# Altium footprint library Panasonic.PcbLib: 90 footprints (part 1 of 6)
Each footprint in its own frame and in the unit in brackets; x right, y up, seen from the top. Pads: shape width x height; smd on the part's side, far side on the other; paste and mask are expansions set on the pad; w line width, h text height; cw(c..) or ccw(c..) is an arc to the next point about the centre after c.
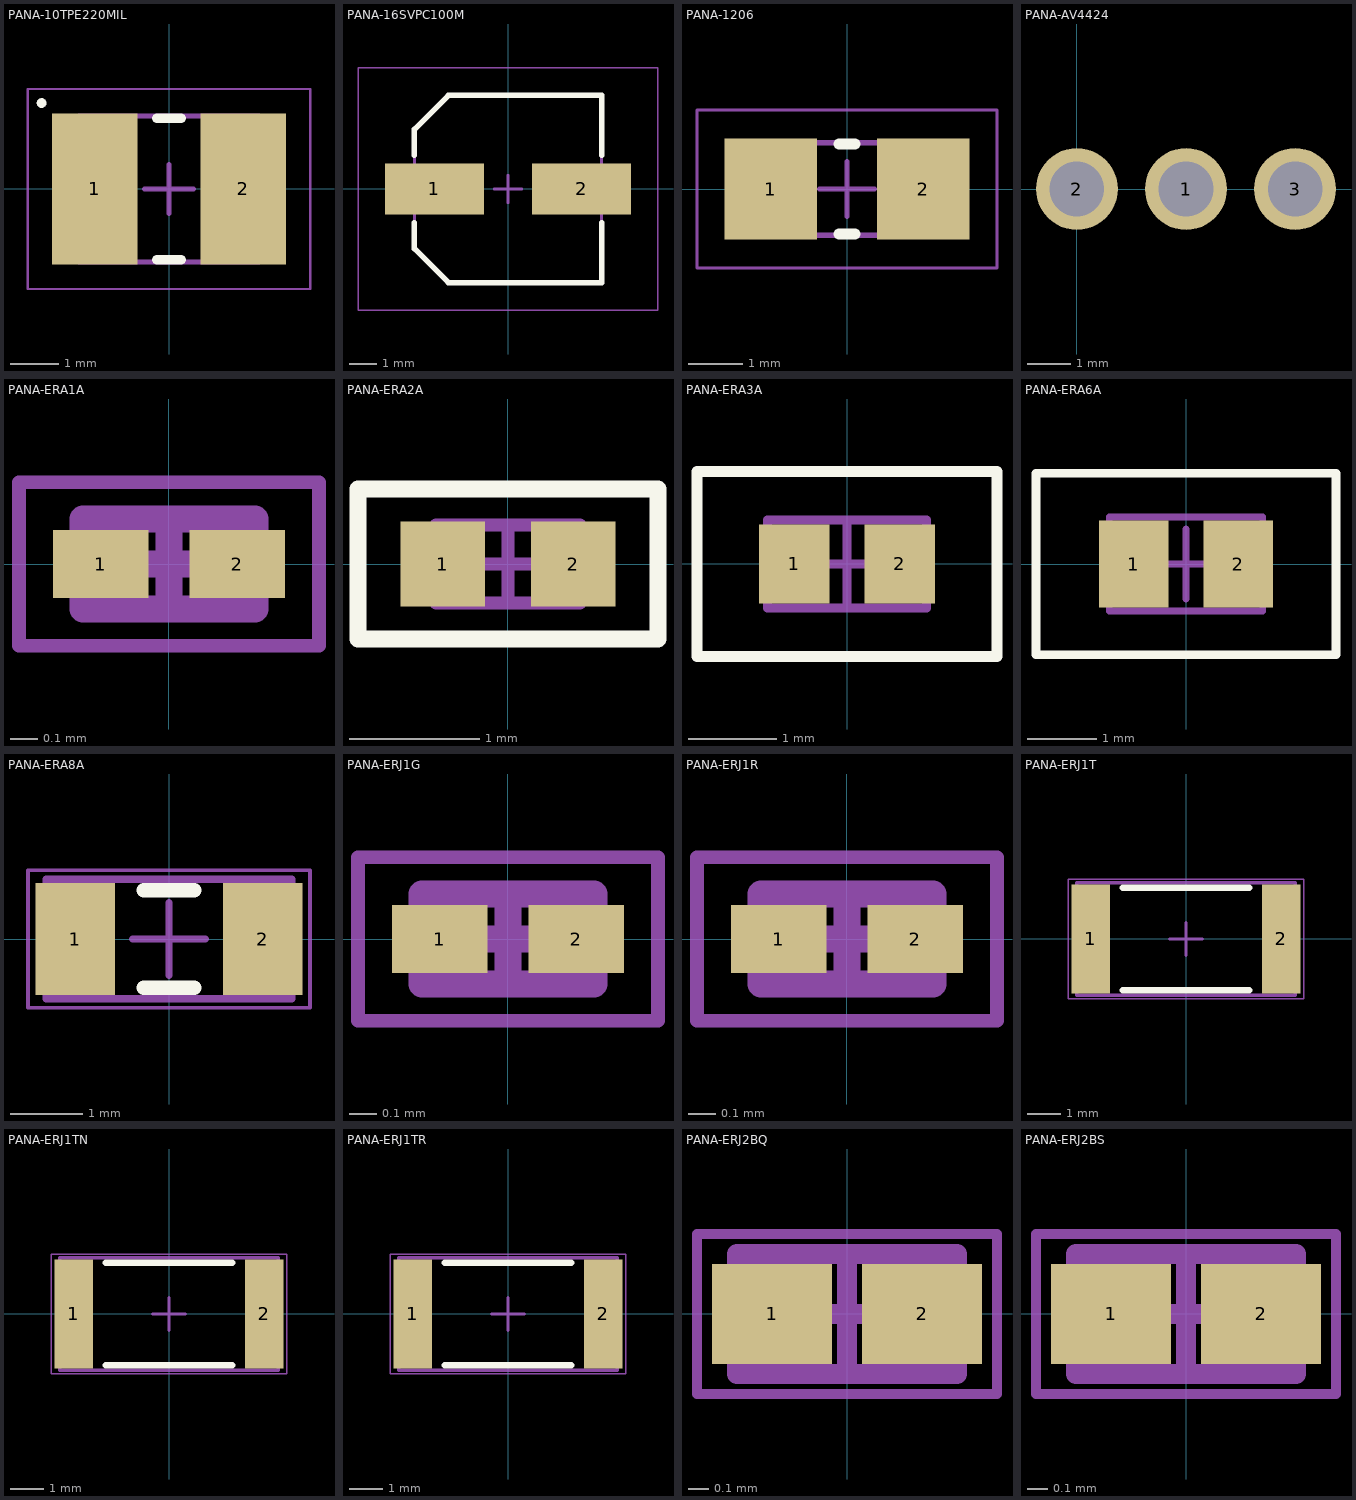
[diagram p0: the footprints below, top view; thin cyan lines are the x and y axes]

## PANA-10TPE220MIL [mm] "Cap: 220 ¦ÌF  Total Derated Cap: 220 ¦ÌF  VDC: 10 V  ESR: 18 m¦¸  Package: 7343-30"
height 2
pads (2):
  rect 1.75x3.1 smd: 1(-1.525,0) 2(1.525,0)
Top Overlay:
  circle w0.1: c-2.612,1.762 r0.05
  lines w0.2: -0.25,-1.45 0.25,-1.45 ; -0.25,1.45 0.25,1.45
Assembly Top:
  lines w0.1: -1.85,-1.5 -1.85,1.5 1.85,1.5 1.85,-1.5 -1.85,-1.5
Courtyard Top:
  lines w0.05: -2.9,-2.05 -2.9,2.05 2.9,2.05 2.9,-2.05 -2.9,-2.05
  lines w0.1: -0.5,0 0.5,0 ; 0,-0.5 0,0.5
3D body: height 2, standoff 0, extent -1.05,-1.5 1.05,1.5
3D body: height 2, standoff 0, extent -1.85,-1.5 -1.05,1.5
3D body: height 2, standoff 0, extent 1.05,-1.5 1.85,1.5

## PANA-16SVPC100M [mm] "Cap: 100 ¦ÌF  Total Derated Cap: 300 ¦ÌF  VDC: 16 V  ESR: 24 m¦¸  Package: 6.3x6"
height 6
pads (2):
  rect 3.6x1.85 smd: 1(-2.675,0) 2(2.675,0)
Top Overlay:
  lines w0.2: -3.4,-1.225 -3.4,-2.163 -2.163,-3.4 3.4,-3.4 3.4,-1.225 ; -3.4,1.225 -3.4,2.163 -2.163,3.4 3.4,3.4 3.4,1.225
Assembly Top:
  lines w0.1: -3.4,-2.163 -3.4,2.163 -2.163,3.4 3.4,3.4 3.4,-3.4 -2.163,-3.4 -3.4,-2.163
Courtyard Top:
  lines w0.05: -5.45,-4.4 5.45,-4.4 5.45,4.4 -5.45,4.4 -5.45,-4.4
  lines w0.1: -0.5,0 0.5,0 ; 0,-0.5 0,0.5
3D body: height 6, standoff 0, extent -3.4,-3.4 3.4,3.4
3D body: height 2, standoff 0, extent -3.4,-3.4 3.4,3.4

## PANA-1206 [mm] "Chip resistor 1206, IPC Low Density"
height 0.6
pads (2):
  rect 1.7x1.85 smd: 1(-1.4,0) 2(1.4,0)
Top Overlay:
  lines w0.2: -0.15,-0.825 0.15,-0.825 ; -0.15,0.825 0.15,0.825
Assembly Top:
  lines w0.1: -1.65,-0.85 1.65,-0.85 1.65,0.85 -1.65,0.85 -1.65,-0.85
Courtyard Top:
  lines w0.05: -2.75,-1.45 2.75,-1.45 2.75,1.45 -2.75,1.45 -2.75,-1.45
  lines w0.1: -0.5,0 0.5,0 ; 0,-0.5 0,0.5
3D body: height 0.6, standoff 0, extent 0.75,-0.85 1.65,0.85
3D body: height 0.6, standoff 0, extent -1.65,-0.85 -0.75,0.85
3D body: height 0.6, standoff 0, extent -0.75,-0.85 0.75,0.85

## PANA-AV4424 [mm]
pads (3):
  round 1.905 hole 1.27: 1(2.54,0) 2(0,0) 3(5.08,0)
3D body "switch pressed.STEP": height 5.81, standoff -3.09, extent -1.21,-1.25 6.29,1.25

## PANA-ERA1A [mm] "Chip Resistor, 2-Leads, Body 0.60x0.30mm, IPC High Density"
height 0.26
pads (2):
  rect 0.35x0.25 smd: 1(-0.25,0) 2(0.25,0)
Mechanical 13:
  lines w0.1: -0.315,-0.165 0.315,-0.165 0.315,0.165 -0.315,0.165 -0.315,-0.165
Mechanical 15:
  lines w0.05: -0.55,-0.3 0.55,-0.3 0.55,0.3 -0.55,0.3 -0.55,-0.3
  lines w0.1: -0.165,0 0.165,0 ; 0,-0.165 0,0.165
3D body: height 0.26, standoff 0, extent 0.165,-0.165 0.315,0.165
3D body: height 0.26, standoff 0, extent -0.315,-0.165 -0.165,0.165
3D body: height 0.26, standoff 0, extent -0.165,-0.165 0.165,0.165

## PANA-ERA2A [mm] "Chip Resistor, 2-Leads, Body 1.00x0.52mm, IPC High Density"
height 0.4
pads (2):
  rect 0.65x0.65 smd: 1(-0.5,0) 2(0.5,0)
Top Overlay:
  lines w0.127: -1.15,-0.575 -1.15,0.575 1.15,0.575 1.15,-0.575 -1.15,-0.575
Assembly Top:
  lines w0.1: -0.55,-0.3 -0.55,0.3 0.55,0.3 0.55,-0.3 -0.55,-0.3
Courtyard Top:
  lines w0.05: -1.15,-0.575 1.15,-0.575 1.15,0.575 -1.15,0.575 -1.15,-0.575
  lines w0.1: -0.275,0 0.275,0 ; 0,-0.275 0,0.275
3D body "RESC1005X04M.step": height 0.4, standoff 0, extent -0.55,-0.3 0.55,0.3

## PANA-ERA3A [mm] "Chip Resistor, 2-Leads, Body 1.60x0.80mm, IPC High Density"
height 0.55
pads (2):
  rect 0.8x0.9 smd: 1(-0.6,0) 2(0.6,0)
Top Overlay:
  lines w0.127: -1.7,-1.05 -1.7,1.05 1.7,1.05 1.7,-1.05 -1.7,-1.05
Mechanical 13:
  lines w0.1: -0.9,-0.5 0.9,-0.5 0.9,0.5 -0.9,0.5 -0.9,-0.5
Mechanical 15:
  lines w0.05: -1.7,-1.05 1.7,-1.05 1.7,1.05 -1.7,1.05 -1.7,-1.05
  lines w0.1: -0.5,0 0.5,0 ; 0,-0.5 0,0.5
3D body: height 0.55, standoff 0, extent 0.6,-0.5 0.9,0.5
3D body: height 0.55, standoff 0, extent -0.9,-0.5 -0.6,0.5
3D body: height 0.55, standoff 0, extent -0.6,-0.5 0.6,0.5

## PANA-ERA6A [mm] "Chip Resistor, 2-Leads, Body 2.00x1.25mm, IPC High Density"
height 0.6
pads (2):
  rect 1x1.25 smd: 1(-0.75,0) 2(0.75,0)
Top Overlay:
  lines w0.127: -2.15,-1.3 2.15,-1.3 2.15,1.3 -2.15,1.3 -2.15,-1.3
Mechanical 13:
  lines w0.1: -1.1,-0.675 1.1,-0.675 1.1,0.675 -1.1,0.675 -1.1,-0.675
Mechanical 15:
  lines w0.05: -2.15,-1.3 -2.15,1.3 2.15,1.3 2.15,-1.3 -2.15,-1.3
  lines w0.1: -0.5,0 0.5,0 ; 0,-0.5 0,0.5
3D body: height 0.6, standoff 0, extent 0.7,-0.675 1.1,0.675
3D body: height 0.6, standoff 0, extent -1.1,-0.675 -0.7,0.675
3D body: height 0.6, standoff 0, extent -0.7,-0.675 0.7,0.675

## PANA-ERA8A [mm] "Chip Resistor, 2-Leads, Body 3.20x1.55mm, IPC High Density"
height 0.7
pads (2):
  rect 1.1x1.55 smd: 1(-1.3,0) 2(1.3,0)
Top Overlay:
  lines w0.2: -0.35,-0.675 0.35,-0.675 ; -0.35,0.675 0.35,0.675
Mechanical 13:
  lines w0.1: -1.7,-0.825 1.7,-0.825 1.7,0.825 -1.7,0.825 -1.7,-0.825
Mechanical 15:
  lines w0.05: -1.95,-0.95 1.95,-0.95 1.95,0.95 -1.95,0.95 -1.95,-0.95
  lines w0.1: -0.5,0 0.5,0 ; 0,-0.5 0,0.5
3D body: height 0.7, standoff 0, extent 1.2,-0.825 1.7,0.825
3D body: height 0.7, standoff 0, extent -1.7,-0.825 -1.2,0.825
3D body: height 0.7, standoff 0, extent -1.2,-0.825 1.2,0.825

## PANA-ERJ1G [mm] "Chip Resistor, 2-Leads, Body 0.60x0.30mm, IPC High Density"
height 0.26
pads (2):
  rect 0.35x0.25 smd: 1(-0.25,0) 2(0.25,0)
Mechanical 13:
  lines w0.1: -0.315,-0.165 -0.315,0.165 0.315,0.165 0.315,-0.165 -0.315,-0.165
Mechanical 15:
  lines w0.05: -0.55,-0.3 -0.55,0.3 0.55,0.3 0.55,-0.3 -0.55,-0.3
  lines w0.1: -0.165,0 0.165,0 ; 0,-0.165 0,0.165
3D body: height 0.26, standoff 0, extent -0.165,-0.165 0.165,0.165
3D body: height 0.26, standoff 0, extent -0.315,-0.165 -0.165,0.165
3D body: height 0.26, standoff 0, extent 0.165,-0.165 0.315,0.165

## PANA-ERJ1R [mm] "Chip Resistor, 2-Leads, Body 0.60x0.30mm, IPC High Density"
height 0.26
pads (2):
  rect 0.35x0.25 smd: 1(-0.25,0) 2(0.25,0)
Mechanical 13:
  lines w0.1: -0.315,-0.165 0.315,-0.165 0.315,0.165 -0.315,0.165 -0.315,-0.165
Mechanical 15:
  lines w0.05: -0.55,-0.3 0.55,-0.3 0.55,0.3 -0.55,0.3 -0.55,-0.3
  lines w0.1: -0.165,0 0.165,0 ; 0,-0.165 0,0.165
3D body: height 0.26, standoff 0, extent 0.165,-0.165 0.315,0.165
3D body: height 0.26, standoff 0, extent -0.315,-0.165 -0.165,0.165
3D body: height 0.26, standoff 0, extent -0.165,-0.165 0.165,0.165

## PANA-ERJ1T [mm] "Chip Resistor, 2-Leads, Body 6.40x3.20mm, IPC High Density"
height 0.7
pads (2):
  rect 1.15x3.3 smd: 1(-2.875,0) 2(2.875,0)
Top Overlay:
  lines w0.2: -1.9,-1.55 1.9,-1.55 ; -1.9,1.55 1.9,1.55
Mechanical 13:
  lines w0.1: -3.3,-1.7 -3.3,1.7 3.3,1.7 3.3,-1.7 -3.3,-1.7
Mechanical 15:
  lines w0.05: -3.55,-1.8 -3.55,1.8 3.55,1.8 3.55,-1.8 -3.55,-1.8
  lines w0.1: -0.5,0 0.5,0 ; 0,-0.5 0,0.5
3D body: height 0.7, standoff 0, extent -2.7,-1.7 2.7,1.7
3D body: height 0.7, standoff 0, extent -3.3,-1.7 -2.7,1.7
3D body: height 0.7, standoff 0, extent 2.7,-1.7 3.3,1.7

## PANA-ERJ1TN [mm] "Chip Resistor, 2-Leads, Body 6.40x3.20mm, IPC High Density"
height 0.7
pads (2):
  rect 1.15x3.3 smd: 1(-2.875,0) 2(2.875,0)
Top Overlay:
  lines w0.2: -1.9,-1.55 1.9,-1.55 ; -1.9,1.55 1.9,1.55
Mechanical 13:
  lines w0.1: -3.3,-1.7 3.3,-1.7 3.3,1.7 -3.3,1.7 -3.3,-1.7
Mechanical 15:
  lines w0.05: -3.55,-1.8 3.55,-1.8 3.55,1.8 -3.55,1.8 -3.55,-1.8
  lines w0.1: -0.5,0 0.5,0 ; 0,-0.5 0,0.5
3D body: height 0.7, standoff 0, extent 2.7,-1.7 3.3,1.7
3D body: height 0.7, standoff 0, extent -3.3,-1.7 -2.7,1.7
3D body: height 0.7, standoff 0, extent -2.7,-1.7 2.7,1.7

## PANA-ERJ1TR [mm] "Chip Resistor, 2-Leads, Body 6.40x3.20mm, IPC High Density"
height 0.7
pads (2):
  rect 1.15x3.3 smd: 1(-2.875,0) 2(2.875,0)
Top Overlay:
  lines w0.2: -1.9,-1.55 1.9,-1.55 ; -1.9,1.55 1.9,1.55
Mechanical 13:
  lines w0.1: -3.3,-1.7 -3.3,1.7 3.3,1.7 3.3,-1.7 -3.3,-1.7
Mechanical 15:
  lines w0.05: -3.55,-1.8 -3.55,1.8 3.55,1.8 3.55,-1.8 -3.55,-1.8
  lines w0.1: -0.5,0 0.5,0 ; 0,-0.5 0,0.5
3D body: height 0.7, standoff 0, extent -2.7,-1.7 2.7,1.7
3D body: height 0.7, standoff 0, extent -3.3,-1.7 -2.7,1.7
3D body: height 0.7, standoff 0, extent 2.7,-1.7 3.3,1.7

## PANA-ERJ2BQ [mm] "Chip Resistor, 2-Leads, Body 1.00x0.52mm, IPC High Density"
height 0.4
pads (2):
  rect 0.6x0.5 smd: 1(-0.375,0) 2(0.375,0)
Mechanical 13:
  lines w0.1: -0.55,-0.3 0.55,-0.3 0.55,0.3 -0.55,0.3 -0.55,-0.3
Mechanical 15:
  lines w0.05: -0.75,-0.4 0.75,-0.4 0.75,0.4 -0.75,0.4 -0.75,-0.4
  lines w0.1: -0.3,0 0.3,0 ; 0,-0.3 0,0.3
3D body: height 0.4, standoff 0, extent 0.28,-0.3 0.55,0.3
3D body: height 0.4, standoff 0, extent -0.55,-0.3 -0.28,0.3
3D body: height 0.4, standoff 0, extent -0.28,-0.3 0.28,0.3

## PANA-ERJ2BS [mm] "Chip Resistor, 2-Leads, Body 1.00x0.52mm, IPC High Density"
height 0.4
pads (2):
  rect 0.6x0.5 smd: 1(-0.375,0) 2(0.375,0)
Mechanical 13:
  lines w0.1: -0.55,-0.3 -0.55,0.3 0.55,0.3 0.55,-0.3 -0.55,-0.3
Mechanical 15:
  lines w0.05: -0.75,-0.4 -0.75,0.4 0.75,0.4 0.75,-0.4 -0.75,-0.4
  lines w0.1: -0.3,0 0.3,0 ; 0,-0.3 0,0.3
3D body: height 0.4, standoff 0, extent -0.28,-0.3 0.28,0.3
3D body: height 0.4, standoff 0, extent -0.55,-0.3 -0.28,0.3
3D body: height 0.4, standoff 0, extent 0.28,-0.3 0.55,0.3